# Altium footprint library USB Charger Project.PcbLib: 24 footprints (part 2 of 2)
Each footprint in its own frame and in the unit in brackets; x right, y up, seen from the top. Pads: shape width x height; smd on the part's side, far side on the other; paste and mask are expansions set on the pad; w line width, h text height; cw(c..) or ccw(c..) is an arc to the next point about the centre after c.
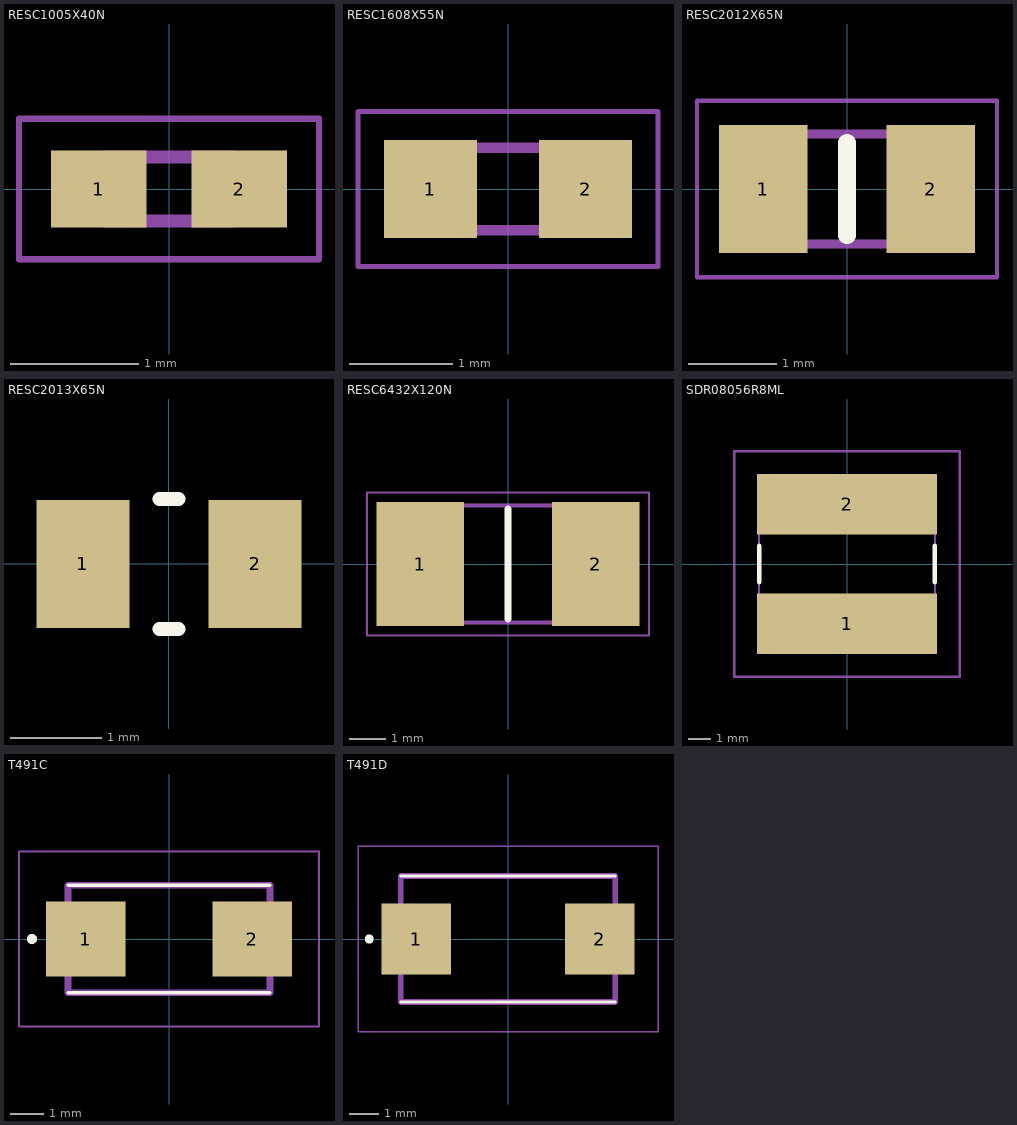
[diagram p1: the footprints below, top view; thin cyan lines are the x and y axes]

## RESC1005X40N [mm]
pads (2):
  rect 0.75x0.6 smd: 1(-0.55,0) 2(0.55,0)
Mechanical 13:
  lines w0.1: -0.5,-0.25 -0.5,0.25 0.5,0.25 0.5,-0.25 -0.5,-0.25
Mechanical 15:
  lines w0.05: -1.175,-0.55 -1.175,0.55 1.175,0.55 1.175,-0.55 -1.175,-0.55
3D body "CRG0402F200K.stp": height 0.4, standoff 0, extent -0.5,-0.25 0.5,0.25

## RESC1608X55N [mm]
pads (2):
  rect 0.9x0.95 smd: 1(-0.75,0) 2(0.75,0)
Mechanical 13:
  lines w0.1: -0.775,-0.4 -0.775,0.4 0.775,0.4 0.775,-0.4 -0.775,-0.4
Mechanical 15:
  lines w0.05: -1.45,-0.75 -1.45,0.75 1.45,0.75 1.45,-0.75 -1.45,-0.75
3D body "CPF0603B715RE1.stp": height 0.46, standoff 0, extent -0.775,-0.4 0.775,0.4

## RESC2012X65N [mm]
pads (2):
  rect 1x1.45 smd: 1(-0.95,0) 2(0.95,0)
Top Overlay:
  lines w0.2: 0,-0.525 0,0.525
Mechanical 13:
  lines w0.1: -1,-0.625 -1,0.625 1,0.625 1,-0.625 -1,-0.625
Mechanical 15:
  lines w0.05: -1.7,-1 -1.7,1 1.7,1 1.7,-1 -1.7,-1
3D body "CRG0805F47K.stp": height 0.56, standoff 0, extent -1,-0.625 1,0.625

## RESC2013X65N [mil]
pads (2):
  rect 40x55 smd: 1(-37,0) 2(37,0)
Top Overlay:
  lines w6: -4,-28 4,-28 ; -4,28 4,28
3D body "TNPW080520K0BEEN.stp": height 13.98, standoff 0, extent -39.96,-25 39.96,25

## RESC6432X120N [mm]
pads (2):
  rect 2.4x3.4 smd: 1(-2.4,0) 2(2.4,0)
Top Overlay:
  lines w0.2: 0,-1.5 0,1.5
Mechanical 13:
  lines w0.1: -3.175,-1.6 -3.175,1.6 3.175,1.6 3.175,-1.6 -3.175,-1.6
Mechanical 15:
  lines w0.05: -3.85,-1.95 -3.85,1.95 3.85,1.95 3.85,-1.95 -3.85,-1.95
3D body "352110KFT.stp": height 1.2, standoff 0, extent -3.175,-1.6 3.175,1.6

## SDR08056R8ML [mm]
pads (2):
  rect 8x2.7 smd: 1(0,-2.65) 2(0,2.65)
Top Overlay:
  lines w0.2: -3.9,-0.8 -3.9,0.8 ; 3.9,-0.8 3.9,0.8
Mechanical 13:
  lines w0.1: -3.9,-3.9 -3.9,3.9 3.9,3.9 3.9,-3.9 -3.9,-3.9
Mechanical 15:
  lines w0.1: -5,-5 -5,5 5,5 5,-5 -5,-5
3D body "SDR0805-6R8ML.stp": height 5.3, standoff 0, extent -3.9,-3.9 3.9,3.9

## T491C [mm]
pads (2):
  rect 2.37x2.23 smd: 1(-2.47,0) 2(2.47,0)
Top Overlay:
  circle w0.2: c-4.07,0 r0.05
  lines w0.1: -3,-1.6 3,-1.6 ; -3,1.6 3,1.6
Mechanical 13:
  lines w0.2: -3,-1.6 -3,1.6 3,1.6 3,-1.6 -3,-1.6
Mechanical 15:
  lines w0.05: -4.455,-2.6 -4.455,2.6 4.455,2.6 4.455,-2.6 -4.455,-2.6
3D body "T491C106K025AT.stp": height 2.81, standoff 0, extent -3.15,-1.75 3.15,1.75

## T491D [mm]
pads (2):
  rect 2.37x2.43 smd: 1(-3.12,0) 2(3.12,0)
Top Overlay:
  circle w0.2: c-4.72,0 r0.05
  lines w0.1: -3.65,-2.15 3.65,-2.15 ; -3.65,2.15 3.65,2.15
Mechanical 13:
  lines w0.2: -3.65,-2.15 -3.65,2.15 3.65,2.15 3.65,-2.15 -3.65,-2.15
Mechanical 15:
  lines w0.05: -5.105,-3.15 -5.105,3.15 5.105,3.15 5.105,-3.15 -5.105,-3.15
3D body "T491D476K010AT.stp": height 3.11, standoff 0, extent -3.8,-2.3 3.8,2.3